# Altium schematic symbol library Resistors.SchLib: 1 symbol
Pins are listed as number, name and electrical type; pins without a type are passive.

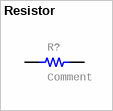
[diagram p0: symbol Resistor]

## Resistor
designator R?, comment Comment
pins: 1, 2